# Altium footprint library PCB - CONNECTOR - TE - TE 1775838-2.PCBLIB: 1 footprints
Each footprint in its own frame and in the unit in brackets; x right, y up, seen from the top. Pads: shape width x height; smd on the part's side, far side on the other; paste and mask are expansions set on the pad; w line width, h text height; cw(c..) or ccw(c..) is an arc to the next point about the centre after c.
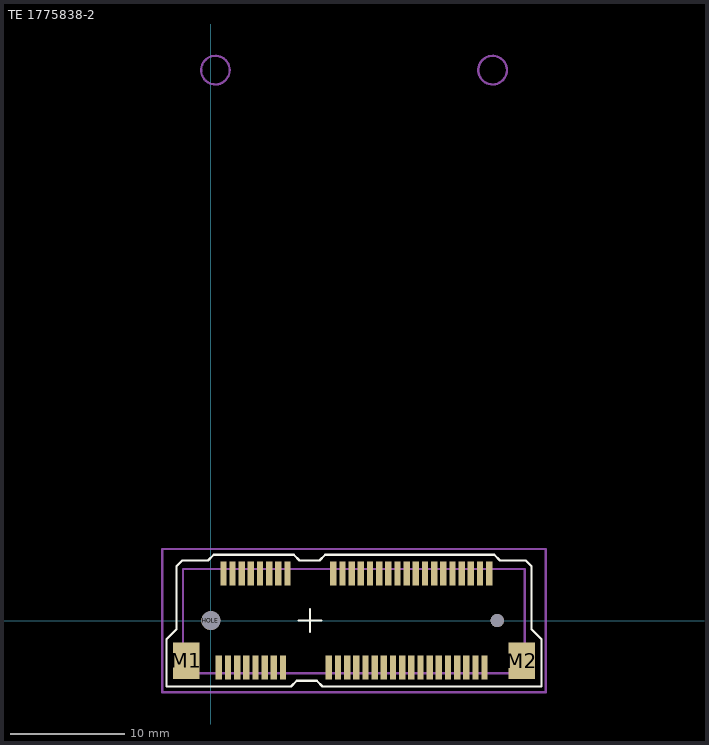
[diagram p0: the footprint, top view; thin cyan lines are the x and y axes]

## TE 1775838-2 [mm] "Assembly, Dual Barrier 4DB P108"
height 13.5
pads (56):
  rect 0.55x2.1 smd mask+0.1: 1(0.7,-4.1) 2(1.1,4.1) 3(1.5,-4.1) 4(1.9,4.1) 5(2.3,-4.1) 6(2.7,4.1) 7(3.1,-4.1) 8(3.5,4.1) 9(3.9,-4.1) 10(4.3,4.1) 11(4.7,-4.1) 12(5.1,4.1) 13(5.5,-4.1) 14(5.9,4.1) 15(6.3,-4.1) 16(6.7,4.1) 17(10.3,-4.1) 18(10.7,4.1) 19(11.1,-4.1) 20(11.5,4.1) 21(11.9,-4.1) 22(12.3,4.1) 23(12.7,-4.1) 24(13.1,4.1) 25(13.5,-4.1) 26(13.9,4.1) 27(14.3,-4.1) 28(14.7,4.1) 29(15.1,-4.1) 30(15.5,4.1) 31(15.9,-4.1) 32(16.3,4.1) 33(16.7,-4.1) 34(17.1,4.1) 35(17.5,-4.1) 36(17.9,4.1) 37(18.3,-4.1) 38(18.7,4.1) 39(19.1,-4.1) 40(19.5,4.1) 41(19.9,-4.1) 42(20.3,4.1) 43(20.7,-4.1) 44(21.1,4.1) 45(21.5,-4.1) 46(21.9,4.1) 47(22.3,-4.1) 48(22.7,4.1) 49(23.1,-4.1) 50(23.5,4.1) 51(23.9,-4.1) 52(24.3,4.1)
  round 1.65 hole 1.65 unplated: HOLE(0,0)
  round 1.15 hole 1.15 unplated: HOLE(25,0)
  rect 2.3x3.2 smd mask+0.1: M1(-2.15,-3.5) M2(27.15,-3.5)
Top Overlay:
  lines w0.2: 7.65,0 9.65,0 ; 8.65,-1 8.65,1 ; -3.875,-5.75 7,-5.75 7.5,-5.25 9.25,-5.25 9.75,-5.75 28.875,-5.75 28.875,-1.625 28,-0.75 28,4.75 27.5,5.25 25.25,5.25 24.75,5.75 10,5.75 9.5,5.25 7.75,5.25 7.25,5.75 0.25,5.75 -0.25,5.25 -2.5,5.25 -3,4.75 -3,-0.75 -3.875,-1.625 -3.875,-5.75
Mechanical 1:
  circle w0.2: c0.4,48.05 r1.25
  circle w0.2: c24.6,48.05 r1.25
  lines w0.2: -2.425,-4.6 -2.425,4.5 27.4,4.5 27.4,-4.6 -2.425,-4.6
Mechanical 15:
  lines w0.2: -0.5,0 0.5,0 ; 0,-0.5 0,0.5 ; -4.25,-6.25 29.25,-6.25 29.25,6.25 -4.25,6.25 -4.25,-6.25
3D body "TE - 1775838-2-h-3d.stp": height 5.59, standoff -0.66, extent -2.45,-4.565 27.45,4.515